# Altium schematic symbol library project.SCHLIB: 34 symbols
Pins are listed as number, name and electrical type; pins without a type are passive.

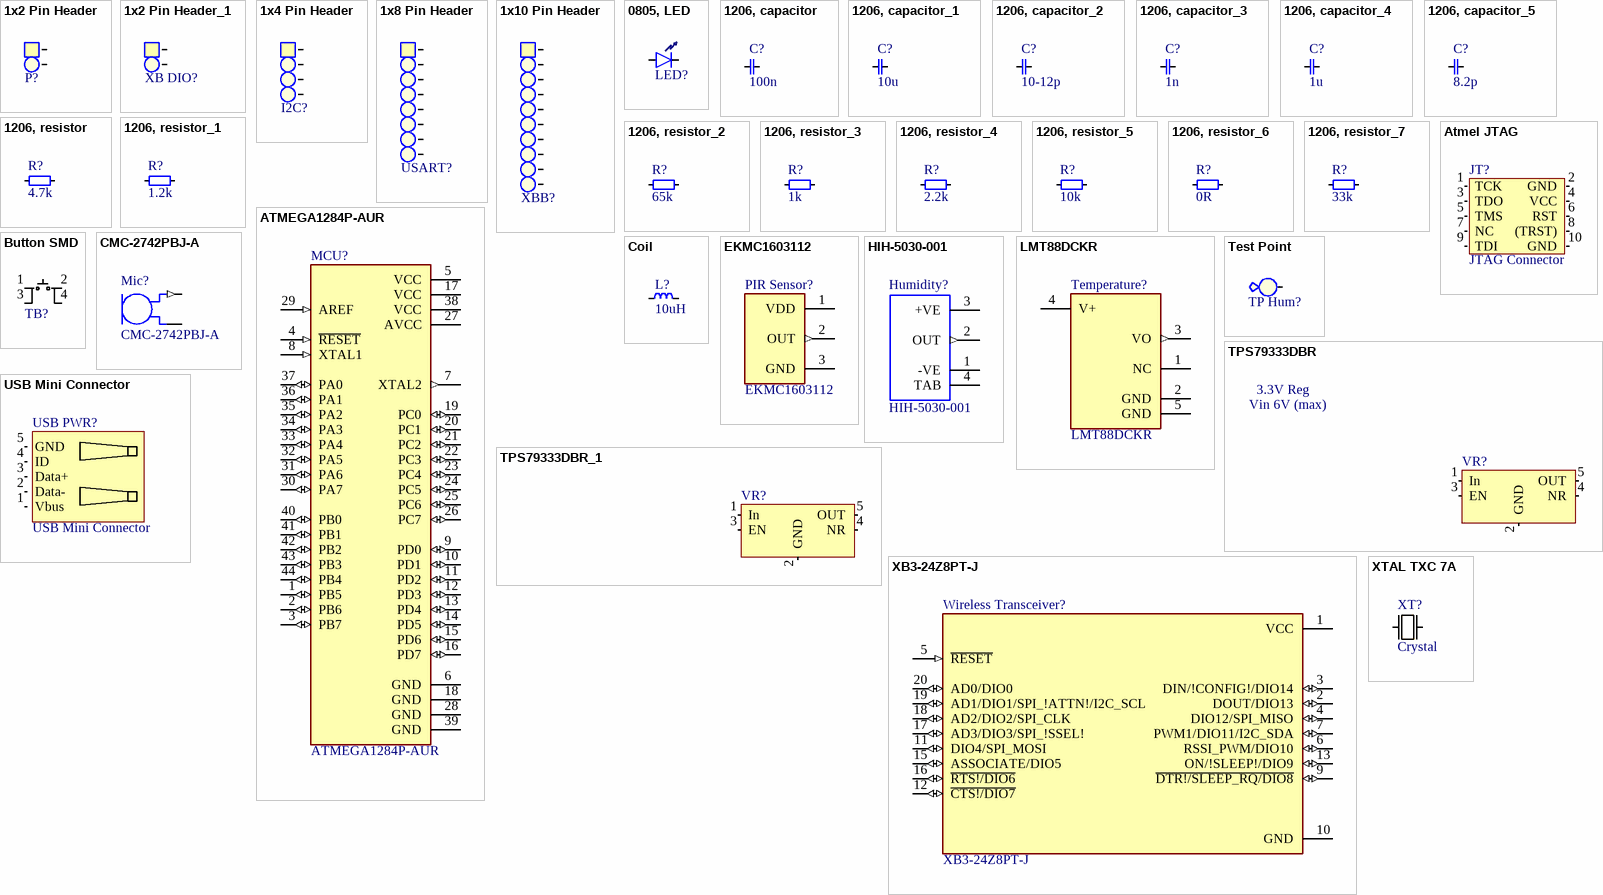
[diagram p0: symbols 1x2 Pin Header to XTAL TXC 7A]

## 1x2 Pin Header
designator P?  (value not drawn)
2.54 mm, TH; Value: 1x2 Pin Header
footprint 1x2HEADER (Pad Diameter 2 mm, Hole  1 mm, Pitch 2.54 mm)
pins: 1, 2

## 1x2 Pin Header_1
designator XB DIO?, comment 1x2 Pin Header  (value not drawn)
2.54 mm, TH; Value: 1x2 Pin Header
footprint padtwo_L (Pad Diameter 2 mm, Hole  0.3 mm, Pitch 2.54 mm)
footprint SMD_PAD (1x2 2.54 mm pitch)
footprint 1x2 Bent (Diameter 2mm, Hole 1mm)
pins: 1, 2

## 1x4 Pin Header
designator I2C?, comment 4x1 Pin Header  (value not drawn)
2.54 mm; Value: 4x1 Pin Header
footprint padFour_L (Pad Diameter 2 mm, Hole  0.3 mm, Pitch 2.54 mm)
footprint 1x4 Bent Pin Header (1x4 Bent Pin Header SMD, 2.54 mm)
footprint 1x4_pcb_side_connec
pins: 1, 2, 3, 4

## 1x8 Pin Header
designator USART?  (value not drawn)
2.54 mm; Value: 1x8 Pin Header
footprint 1x8 Pin HEader
pins: 1, 2, 3, 4, 5, 6, 7, 8

## 1x10 Pin Header
designator XBB?  (value not drawn)
2.54 mm, TH; Value: 1x2 Pin Header
footprint 1x10_2mm
pins: 1, 2, 3, 4, 5, 6, 7, 8, 9, 10

## 0805, LED
designator LED?  (value not drawn)
Value: 0805 LED
footprint 0805_led
pins: 0 Cathode, 1

## 1206, capacitor
designator C?  value 100n  (hidden comment: 1206, capacitor)
footprint 1206, capasitor (Generic 1206)
pins: 0, 1

## 1206, capacitor_1
designator C?, comment value 10u  (hidden comment: 1206, capacitor)
footprint 1206, capasitor (Generic 1206)
pins: 0, 1

## 1206, capacitor_2
designator C?, comment value 10-12p  (hidden comment: 1206, capacitor)
footprint 1206, capasitor (Generic 1206)
pins: 0, 1

## 1206, capacitor_3
designator C?, comment value 1n  (hidden comment: 1206, capacitor)
footprint 1206, capasitor (Generic 1206)
pins: 0, 1

## 1206, capacitor_4
designator C?, comment value 1u  (hidden comment: 1206, capacitor)
footprint 1206, capasitor (Generic 1206)
pins: 0, 1

## 1206, capacitor_5
designator C?, comment value 8.2p  (hidden comment: 1206, capacitor)
footprint 1206, capasitor (Generic 1206)
pins: 0, 1

## 1206, resistor
designator R?  value 4.7k  (hidden comment: 1206, resistor)
Resistor
footprint 1206 (Generic 1206)
pins: 0, 1

## 1206, resistor_1
designator R?, comment value 1.2k  (hidden comment: 1206, resistor)
Resistor
footprint 1206 (Generic 1206)
pins: 0, 1

## 1206, resistor_2
designator R?, comment value 65k  (hidden comment: 1206, resistor)
Resistor
footprint 1206 (Generic 1206)
pins: 0, 1

## 1206, resistor_3
designator R?, comment value 1k  (hidden comment: 1206, resistor)
Resistor
footprint 1206 (Generic 1206)
pins: 0, 1

## 1206, resistor_4
designator R?, comment value 2.2k  (hidden comment: 1206, resistor)
Resistor
footprint 1206 (Generic 1206)
pins: 0, 1

## 1206, resistor_5
designator R?, comment value 10k  (hidden comment: 1206, resistor)
Resistor
footprint 1206 (Generic 1206)
pins: 0, 1

## 1206, resistor_6
designator R?, comment value 0R  (hidden comment: 1206, resistor)
Resistor
footprint 1206 (Generic 1206)
pins: 0, 1

## 1206, resistor_7
designator R?, comment value 33k  (hidden comment: 1206, resistor)
Resistor
footprint 1206 (Generic 1206)
pins: 0, 1

## ATMEGA1284P-AUR
designator MCU?
AVR AVRÂ® ATmega Microcontroller IC 8-Bit 20MHz 128KB (64K x 16) FLASH 44-TQFP (10x10); MF: Microchip; Price: None; SnapEDA_Link: https://www.snapeda.com/parts/ATMEGA1284P-AUR/Microchip/view-part/1775205/?ref=snap; MP: ATMEGA1284P-AUR; Availability: Warning; Value: *; Mouser-Purchase-URL: https://snapeda.com/shop?store=Mouser&id=1775205; Package: TQFP-44 Microchip
footprint QFP80P1200X1200X120-44N
pins: 1 PB5 (io), 2 PB6 (io), 3 PB7 (io), 4 ~{RESET} (in), 5 VCC (power), 6 GND (power), 7 XTAL2 (out), 8 XTAL1 (in), 9 PD0 (io), 10 PD1 (io), 11 PD2 (io), 12 PD3 (io), 13 PD4 (io), 14 PD5 (io), 15 PD6 (io), 16 PD7 (io), 17 VCC (power), 18 GND (power), 19 PC0 (io), 20 PC1 (io), 21 PC2 (io), 22 PC3 (io), 23 PC4 (io), 24 PC5 (io), 25 PC6 (io), 26 PC7 (io), 27 AVCC (power), 28 GND (power), 29 AREF (in), 30 PA7 (io), 31 PA6 (io), 32 PA5 (io), 33 PA4 (io), 34 PA3 (io), 35 PA2 (io), 36 PA1 (io), 37 PA0 (io), 38 VCC (power), 39 GND (power), 40 PB0 (io), 41 PB1 (io), 42 PB2 (io), 43 PB3 (io), 44 PB4 (io)

## Atmel JTAG
designator JT?, comment JTAG Connector
Atmel JTAG Connector
footprint Atmel_JTAG
pins: 1 TCK, 2 GND, 3 TDO, 4 VCC, 5 TMS, 6 RST, 7 NC, 8 (TRST), 9 TDI, 10 GND

## Button SMD
designator TB?, comment Tactile Button  (value not drawn)
Tactile Switch Small Low; Value: Button SMD; ELFA: 110-87-406
footprint Button smd
pins: 1, 2, 3, 4

## CMC-2742PBJ-A
designator Mic?
6.0 mm, Omnidirectional, PCB Mount, 2.0 Vdc, Electret Condenser Microphone; Package: None; Price: None; Value: *; MP: CMC-2742PBJ-A; Availability: Unavailable
footprint CUI_CMC-2742PBJ-A
pins: GND (power), OUT (out)

## Coil
designator L?  value 10uH  (hidden comment: Coil)
footprint 1812, coil
footprint 1210, Res
pins: 1, 2

## EKMC1603112
designator PIR Sensor?
Sensor PIR _Passive Infrared_ 472 _12m_ 39.4' Polyethylene, Black Lens; MF: Panasonic Electric; Value: *; SnapEDA_Link: https://www.snapeda.com/parts/EKMC1603112/Panasonic%20Electric%20Works/view-part/82446/?ref=snap; Availability: Unavailable; MP: EKMC1603112; Package: - Panasonic Electric; Price: None
footprint TO254P2200H2020-3
pins: 1 VDD (power), 2 OUT (out), 3 GND (power)

## HIH-5030-001
designator Humidity?
Humidity Temperature Sensor 0 ~ 100% RH Analog Voltage Â±3% RH 5s Surface Mount; MF: Honeywell Sensing; Value: *; MP: HIH-5030-001; Package: Housed Sensor Honeywell Sensing; SnapEDA_Link: https://www.snapeda.com/parts/HIH-5030-001/Honeywell%20Sensing%20and%20Productivity%20Solutions/view-part/269223/?ref=snap; Digi-Key_Part_Number: 480-3294-1-ND; Digi-Key_Purchase_URL: https://www.digikey.com/product-detail/en/honeywell-sensing-and-productivity-solutions/HIH-5030-001/480-3294-1-ND/2061078?utm_source=snapeda&utm_medium=aggregator&utm_campaign=symbol
footprint HONEYWELL_HIH-5030-001
pins: 1 -VE (power), 2 OUT (out), 3 +VE (power), 4 TAB

## LMT88DCKR
designator Temperature?
&plusmn;4&deg;C analog output temperature sensor, with -11.77mV/&deg;C gain 5-SC70 -55 to 130; Price: None; Package: None; Availability: Unavailable; MP: LMT88DCKR; Value: *
footprint SOT65P210X110-5N
pins: 1 NC, 2 GND (power), 3 VO (out), 4 V+ (power), 5 GND (power)

## Test Point
designator TP Hum?  (value not drawn)
Value: Test point; Farnell: 1702006
footprint testPoint (Diameter 2mm, Hole 0.3mm)
pins: 0

## TPS79333DBR
designator VR?, comment 3.3V Reg  Input Voltage: Vin 6V (max)
3.3V Reg, Ultra-Low Noise, 200 mA; Value: TPS79333DBVR; Drop Out: 102mV; Farnell: 1287689
footprint SOT23-5 (SOT23, 5-Leads, Body 2,90x2,80mm, Pitch 0,95mm, IPC Medium Density)
pins: 1 In, 2 GND, 3 EN, 4 NR, 5 OUT

## TPS79333DBR_1
designator VR?
3.3V Reg, Ultra-Low Noise, 200 mA; Value: TPS79333DBVR; Drop Out: 102mV; Farnell: 1287689
footprint SOT23-5 (SOT23, 5-Leads, Body 2,90x2,80mm, Pitch 0,95mm, IPC Medium Density)
pins: 1 In, 2 GND, 3 EN, 4 NR, 5 OUT

## USB Mini Connector
designator USB PWR?
Value: USB Mini Connector; Farnell: 1125348
footprint USB Mini
footprint USB Mini TH
footprint usb_mini2
pins: 1 Vbus, 2 Data-, 3 Data+, 4 ID, 5 GND

## XB3-24Z8PT-J
designator Wireless Transceiver?
802.15.4 ZigbeeÂ® Transceiver Module 2.4GHz Integrated, Trace Through Hole; MF: Digi International; Value: *; Digi-Key_Purchase_URL: https://www.digikey.ch/product-detail/en/digi/XB3-24Z8PT-J/602-2188-ND/8130934?utm_source=snapeda&utm_medium=aggregator&utm_campaign=symbol; MP: XB3-24Z8PT-J; Package: Module Digi International; SnapEDA_Link: https://www.snapeda.com/parts/XB3-24Z8PT-J/Digi%20International/view-part/2751315/?ref=snap; Digi-Key_Part_Number: 602-2188-ND
footprint XCVR_XB3-24Z8PT-J
pins: 1 VCC (power), 2 DOUT/DIO13 (io), 3 DIN/!CONFIG!/DIO14 (io), 4 DIO12/SPI_MISO (io), 5 ~{RESET} (in), 6 RSSI_PWM/DIO10 (io), 7 PWM1/DIO11/I2C_SDA (io), 9 ~{DTR!/SLEEP_RQ/DIO8} (io), 10 GND (power), 11 DIO4/SPI_MOSI (io), 12 ~{CTS!/DIO7} (io), 13 ON/!SLEEP!/DIO9 (io), 15 ASSOCIATE/DIO5 (io), 16 ~{RTS!/DIO6} (io), 17 AD3/DIO3/SPI_!SSEL! (io), 18 AD2/DIO2/SPI_CLK (io), 19 AD1/DIO1/SPI_!ATTN!/I2C_SCL (io), 20 AD0/DIO0 (io)

## XTAL TXC 7A
designator XT?  value Crystal  (hidden comment: XTAL TXC 7A)
16 MHz, SMD, 5mm x 3,2mm, 30 ppm; Farnell: 1841946
footprint XTAL_SMD_LP (Pad 1.7x2.4, Pitch 3.7)
pins: 1, 2